# EAGLE library part SHIELD (library OSSI)
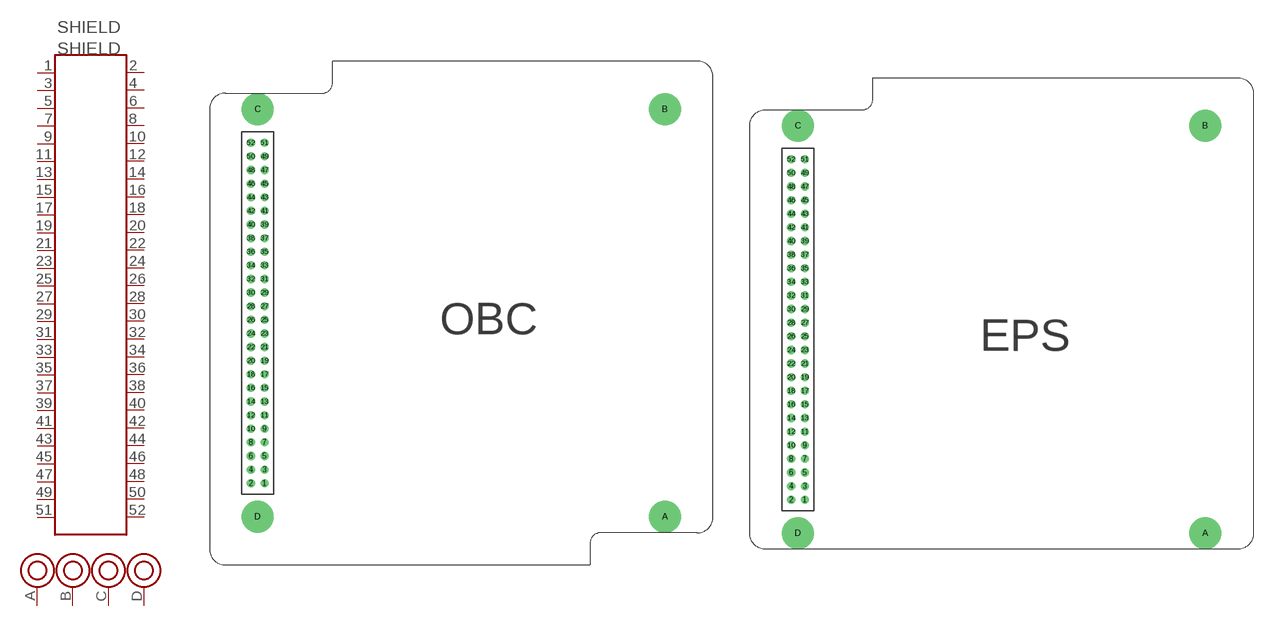
[diagram p56: symbol with the pads of OBC_SHIELD; footprints OBC_SHIELD, EPS_SHIELD]

Designator prefix SHIELD

## SHIELD_OBC  [OBC_SHIELD]
1  1
2  2
3  3
4  4
5  5
6  6
7  7
8  8
9  9
10  10
11  11
12  12
13  13
14  14
15  15
16  16
17  17
18  18
19  19
20  20
21  21
22  22
23  23
24  24
25  25
26  26
27  27
28  28
29  29
30  30
31  31
32  32
33  33
34  34
35  35
36  36
37  37
38  38
39  39
40  40
41  41
42  42
43  43
44  44
45  45
46  46
47  47
48  48
49  49
50  50
51  51
52  52
A  A
B  B
C  C
D  D

## SHIELD_EPS  [EPS_SHIELD]
Pads as for OBC_SHIELD

## SHIELD_COMMS  [COMMS_SHIELD]
Pads as for OBC_SHIELD

## Footprint OBC_SHIELD (pad centres in mm)
drill 1.016 pad 1.524: 1 10.27,15.25; 2 7.73,15.25; 3 10.27,17.79; 4 7.73,17.79; 5 10.27,20.33; 6 7.73,20.33; 7 10.27,22.87; 8 7.73,22.87; 9 10.27,25.41; 10 7.73,25.41; 11 10.27,27.95; 12 7.73,27.95; 13 10.27,30.49; 14 7.73,30.49; 15 10.27,33.03; 16 7.73,33.03; 17 10.27,35.57; 18 7.73,35.57; 19 10.27,38.11; 20 7.73,38.11; 21 10.27,40.65; 22 7.73,40.65; 23 10.27,43.19; 24 7.73,43.19; 25 10.27,45.73; 26 7.73,45.73; 27 10.27,48.27; 28 7.73,48.27; 29 10.27,50.81; 30 7.73,50.81; 31 10.27,53.35; 32 7.73,53.35; 33 10.27,55.89; 34 7.73,55.89; 35 10.27,58.43; 36 7.73,58.43; 37 10.27,60.97; 38 7.73,60.97; 39 10.27,63.51; 40 7.73,63.51; 41 10.27,66.05; 42 7.73,66.05; 43 10.27,68.59; 44 7.73,68.59; 45 10.27,71.13; 46 7.73,71.13; 47 10.27,73.67; 48 7.73,73.67; 49 10.27,76.21; 50 7.73,76.21; 51 10.27,78.75; 52 7.73,78.75
drill 3.2 pad 6: A 85,9; B 85,85; C 9,85; D 9,9

## Footprint EPS_SHIELD (pad centres in mm)
drill 1.016 pad 1.524: 1 10.27,9.25; 2 7.73,9.25; 3 10.27,11.79; 4 7.73,11.79; 5 10.27,14.33; 6 7.73,14.33; 7 10.27,16.87; 8 7.73,16.87; 9 10.27,19.41; 10 7.73,19.41; 11 10.27,21.95; 12 7.73,21.95; 13 10.27,24.49; 14 7.73,24.49; 15 10.27,27.03; 16 7.73,27.03; 17 10.27,29.57; 18 7.73,29.57; 19 10.27,32.11; 20 7.73,32.11; 21 10.27,34.65; 22 7.73,34.65; 23 10.27,37.19; 24 7.73,37.19; 25 10.27,39.73; 26 7.73,39.73; 27 10.27,42.27; 28 7.73,42.27; 29 10.27,44.81; 30 7.73,44.81; 31 10.27,47.35; 32 7.73,47.35; 33 10.27,49.89; 34 7.73,49.89; 35 10.27,52.43; 36 7.73,52.43; 37 10.27,54.97; 38 7.73,54.97; 39 10.27,57.51; 40 7.73,57.51; 41 10.27,60.05; 42 7.73,60.05; 43 10.27,62.59; 44 7.73,62.59; 45 10.27,65.13; 46 7.73,65.13; 47 10.27,67.67; 48 7.73,67.67; 49 10.27,70.21; 50 7.73,70.21; 51 10.27,72.75; 52 7.73,72.75
drill 3.2 pad 6: A 85,3; B 85,79; C 9,79; D 9,3

## Footprint COMMS_SHIELD (pad centres in mm)
drill 1.016 pad 1.524: 1 10.27,15.25; 2 7.73,15.25; 3 10.27,17.79; 4 7.73,17.79; 5 10.27,20.33; 6 7.73,20.33; 7 10.27,22.87; 8 7.73,22.87; 9 10.27,25.41; 10 7.73,25.41; 11 10.27,27.95; 12 7.73,27.95; 13 10.27,30.49; 14 7.73,30.49; 15 10.27,33.03; 16 7.73,33.03; 17 10.27,35.57; 18 7.73,35.57; 19 10.27,38.11; 20 7.73,38.11; 21 10.27,40.65; 22 7.73,40.65; 23 10.27,43.19; 24 7.73,43.19; 25 10.27,45.73; 26 7.73,45.73; 27 10.27,48.27; 28 7.73,48.27; 29 10.27,50.81; 30 7.73,50.81; 31 10.27,53.35; 32 7.73,53.35; 33 10.27,55.89; 34 7.73,55.89; 35 10.27,58.43; 36 7.73,58.43; 37 10.27,60.97; 38 7.73,60.97; 39 10.27,63.51; 40 7.73,63.51; 41 10.27,66.05; 42 7.73,66.05; 43 10.27,68.59; 44 7.73,68.59; 45 10.27,71.13; 46 7.73,71.13; 47 10.27,73.67; 48 7.73,73.67; 49 10.27,76.21; 50 7.73,76.21; 51 10.27,78.75; 52 7.73,78.75
drill 3.2 pad 6: A 85,9; B 85,85; C 9,85; D 9,9